# EAGLE library part IMD (library FSAE Eletric)
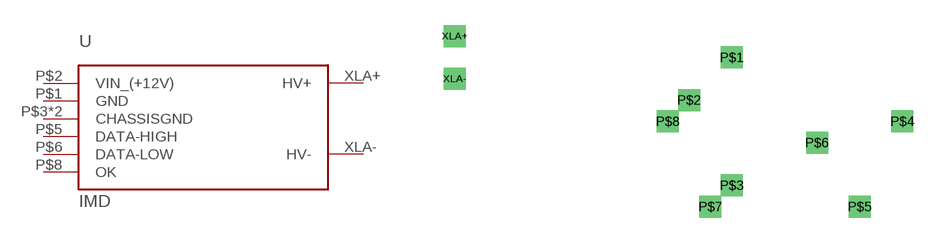
[diagram p19: symbol with the pads of IMD; footprint IMD]

Designator prefix -

## IMD  [IMD]
P$1  GND
P$2  VIN_(+12V)
P$3  CHASSISGND
P$4  CHASSISGND
P$5  DATA-HIGH
P$6  DATA-LOW
P$8  OK
XLA+  HV+
XLA-  HV-

## Footprint IMD (pad centres in mm)
drill 0.8 square: P$1 -3.81,7.62; P$2 -6.35,5.08; P$3 -3.81,0; P$4 6.35,3.81; P$5 3.81,-1.27; P$6 1.27,2.54; P$7 -5.08,-1.27; P$8 -7.62,3.81; XLA+ -20.32,8.89; XLA- -20.32,6.35